# Altium footprint library SM04B-SRSS-TB.PcbLib: 1 footprints
Each footprint in its own frame and in the unit in brackets; x right, y up, seen from the top. Pads: shape width x height; smd on the part's side, far side on the other; paste and mask are expansions set on the pad; w line width, h text height; cw(c..) or ccw(c..) is an arc to the next point about the centre after c.
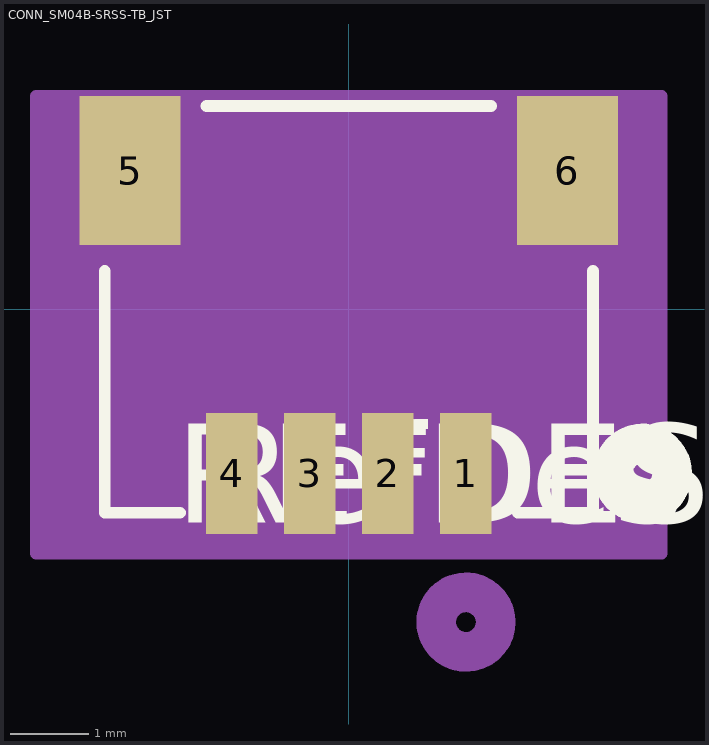
[diagram p0: the footprint, top view; thin cyan lines are the x and y axes]

## CONN_SM04B-SRSS-TB_JST [mil]
pads (6):
  rect 26x61 smd paste+0 mask+0: 1(59.06,-82.62) 2(19.68,-82.62) 3(-19.68,-82.62) 4(-59.06,-82.62)
  rect 51x75 smd paste-37.5 mask-37.5: 5(-110.24,69.94) 6(110.24,69.94)
Top Overlay:
  circle w20: c148,-82.62 r15
  lines w6: -123,19.34 -123,-102.5 -85.16,-102.5 ; -71.64,102.5 71.64,102.5 ; 85.16,-102.5 123,-102.5 123,19.34
  text "RefDes" at -75,-107.62 h50
  text "REFDES" at -87.5,-107.62 h50
Bottom Overlay:
  circle w20: c148,-82.62 r15
Mechanical 13:
  circle w20: c59.06,-157.62 r15
  lines w1: -118,-97.5 118,-97.5 118,97.5 -118,97.5 -118,-97.5
  text "RefDes2" at -87.5,-107.62 h50
Mechanical 15:
  region: 157.74,107.5 -157.74,107.5 -157.74,-123.12 157.74,-123.12
  lines w6: -157.74,-123.12 -157.74,107.5 157.74,107.5 157.74,-123.12 -157.74,-123.12